# Altium schematic symbol library Header_1x2.SchLib: 1 symbol
Pins are listed as number, name and electrical type; pins without a type are passive.

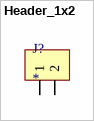
[diagram p0: symbol Header_1x2]

## Header_1x2
designator J?
pins: 1, 2